# EAGLE library part IS45S16400J (library TinWhiskers - Copy)
IS45S16400J (SDRAM; Mfr: ISSI); Specs: http://www.issi.com/WW/pdf/42-45S16400J.pdf
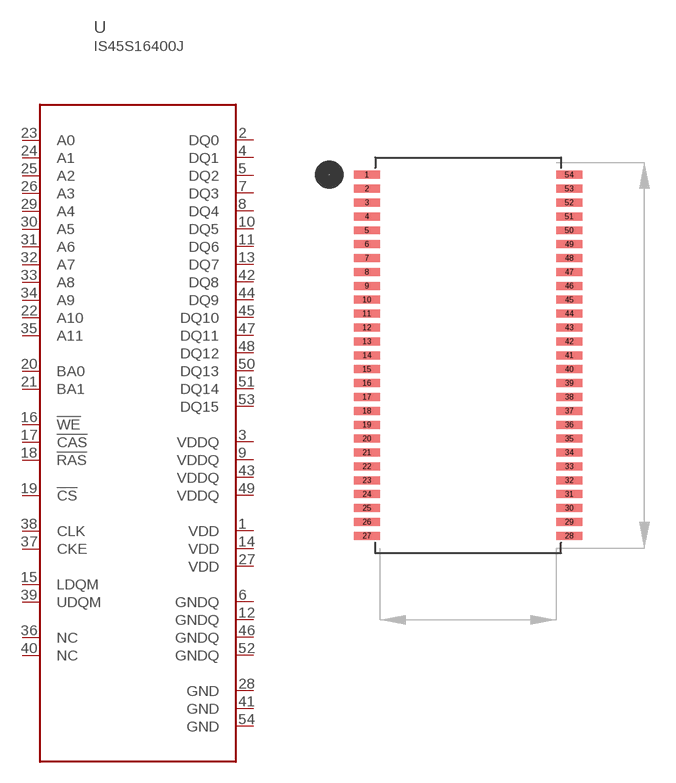
[diagram p1: symbol with the pads of 54-TSOP; footprint 54-TSOP]

Designator prefix U

## IS45S16400J  [54-TSOP]
1  VDD  pwr
2  DQ0
3  VDDQ  pwr
4  DQ1
5  DQ2
6  GNDQ  pwr
7  DQ3
8  DQ4
9  VDDQ  pwr
10  DQ5
11  DQ6
12  GNDQ  pwr
13  DQ7
14  VDD  pwr
15  LDQM  in
16  !WE  in
17  !CAS  in
18  !RAS  in
19  !CS  in
20  BA0  in
21  BA1  in
22  A10  in
23  A0  in
24  A1  in
25  A2  in
26  A3  in
27  VDD  pwr
28  GND  pwr
29  A4  in
30  A5  in
31  A6  in
32  A7  in
33  A8  in
34  A9  in
35  A11  in
36  NC  nc
37  CKE  in
38  CLK  in
39  UDQM  in
40  NC  nc
41  GND  pwr
42  DQ8
43  VDDQ  pwr
44  DQ9
45  DQ10
46  GNDQ  pwr
47  DQ11
48  DQ12
49  VDDQ  pwr
50  DQ13
51  DQ14
52  GNDQ  pwr
53  DQ15
54  GND  pwr

## Footprint 54-TSOP (pad centres in mm)
54 T-SOP Package (SDRAM)
smd 1.51 x 0.46: 1 -5.83,10.4; 2 -5.83,9.6; 3 -5.83,8.8; 4 -5.83,8; 5 -5.83,7.2; 6 -5.83,6.4; 7 -5.83,5.6; 8 -5.83,4.8; 9 -5.83,4; 10 -5.83,3.2; 11 -5.83,2.4; 12 -5.83,1.6; 13 -5.83,0.8; 14 -5.82,0; 15 -5.83,-0.8; 16 -5.83,-1.6; 17 -5.83,-2.4; 18 -5.83,-3.2; 19 -5.83,-4; 20 -5.83,-4.8; 21 -5.83,-5.6; 22 -5.83,-6.4; 23 -5.83,-7.2; 24 -5.83,-8; 25 -5.83,-8.8; 26 -5.83,-9.6; 27 -5.83,-10.4; 28 5.83,-10.4; 29 5.83,-9.6; 30 5.83,-8.8; 31 5.83,-8; 32 5.83,-7.2; 33 5.83,-6.4; 34 5.83,-5.6; 35 5.83,-4.8; 36 5.83,-4; 37 5.83,-3.2; 38 5.83,-2.4; 39 5.83,-1.6; 40 5.83,-0.8; 41 5.83,0; 42 5.83,0.8; 43 5.83,1.6; 44 5.83,2.4; 45 5.83,3.2; 46 5.83,4; 47 5.83,4.8; 48 5.83,5.6; 49 5.83,6.4; 50 5.83,7.2; 51 5.83,8; 52 5.83,8.8; 53 5.83,9.6; 54 5.83,10.4